# Altium footprint library PBL4_GR4_PcbLib.PcbLib: 35 footprints (part 1 of 3)
Each footprint in its own frame and in the unit in brackets; x right, y up, seen from the top. Pads: shape width x height; smd on the part's side, far side on the other; paste and mask are expansions set on the pad; w line width, h text height; cw(c..) or ccw(c..) is an arc to the next point about the centre after c.
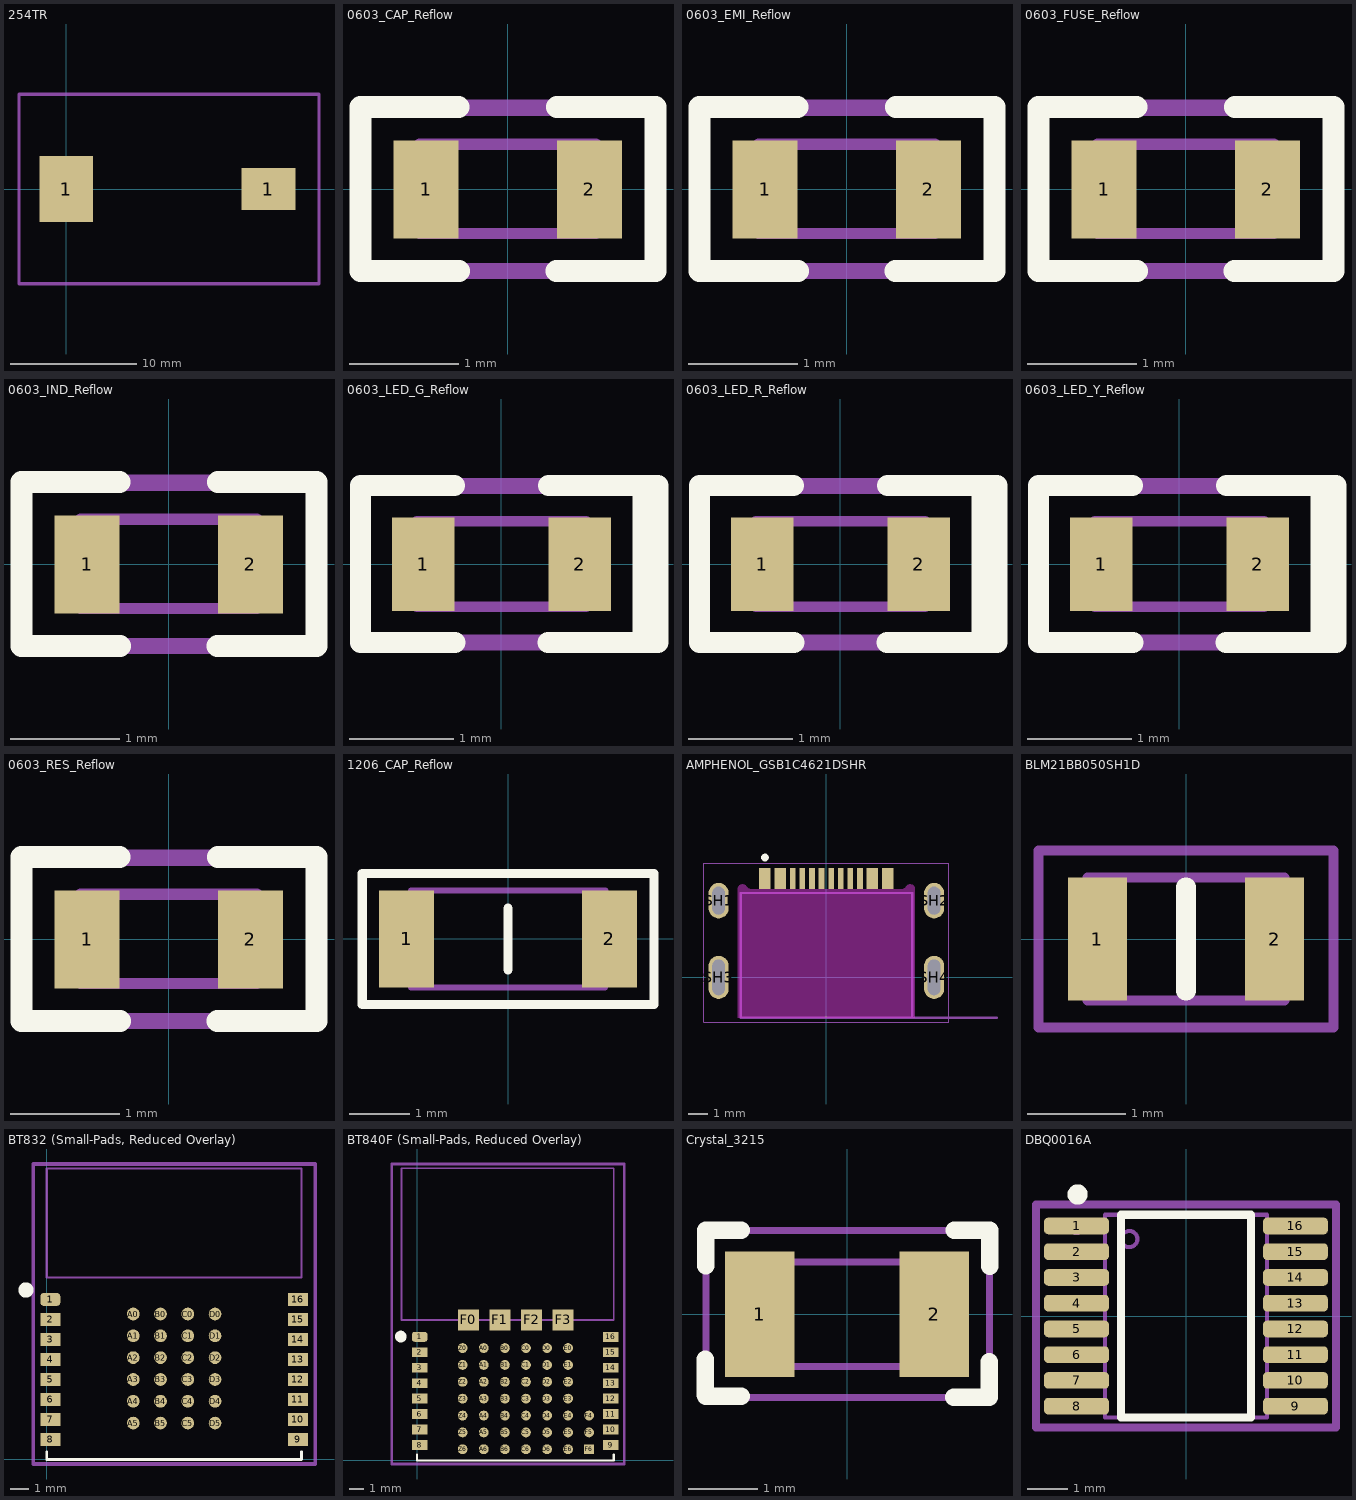
[diagram p0: the footprints below, top view; thin cyan lines are the x and y axes]

## 254TR [mm]
pads (2):
  rect 4.24x5.2 smd: 1(0,0)
  rect 4.24x3.3 smd: 1(16,0)
Top Assembly:
  lines w0.254: -3.75,-7.5 -3.75,7.5 20,7.5 20,-7.5 -3.75,-7.5
  text ".Designator" at 4.504,-0.346 h1.2

## 0603_CAP_Reflow [mm]
pads (2):
  rect 0.6x0.9 smd paste-0.05: 1(-0.75,0) 2(0.75,0)
Top Overlay:
  lines w0.203: -0.451,0.756 -1.352,0.756 -1.352,-0.75 -0.446,-0.75 ; 0.447,-0.75 1.358,-0.75 1.358,0.756 0.452,0.756
Top Component Outline:
  lines w0.102: -0.81,-0.406 0.81,-0.406 0.81,0.414 -0.81,0.414 -0.81,-0.406
Top Assembly:
  lines w0.15: -1.375,-0.75 -1.375,0.75 1.38,0.75 1.38,-0.75 -1.375,-0.75
  text ".Designator" at -0.9,-0.206 h1
3D body "User Library-ECHU_PPS.step": height 0.7, standoff 0, extent -0.8,-0.4 0.8,0.4

## 0603_EMI_Reflow [mm]
pads (2):
  rect 0.6x0.9 smd paste-0.05: 1(-0.75,0) 2(0.75,0)
Top Overlay:
  lines w0.203: -0.451,0.756 -1.352,0.756 -1.352,-0.75 -0.446,-0.75 ; 0.447,-0.75 1.358,-0.75 1.358,0.756 0.452,0.756
Top Component Outline:
  lines w0.102: -0.81,-0.406 -0.81,0.414 0.81,0.414 0.81,-0.406 -0.81,-0.406
Top Assembly:
  lines w0.15: -1.375,-0.75 1.38,-0.75 1.38,0.75 -1.375,0.75 -1.375,-0.75
  text ".Designator" at -0.81,-0.221 h1
3D body "603.stp": height 0.81, standoff 0, extent -0.81,-0.406 0.81,0.414

## 0603_FUSE_Reflow [mm]
pads (2):
  rect 0.6x0.9 smd paste-0.05: 1(-0.75,0) 2(0.75,0)
Top Overlay:
  lines w0.203: -0.451,0.756 -1.352,0.756 -1.352,-0.75 -0.446,-0.75 ; 0.447,-0.75 1.358,-0.75 1.358,0.756 0.452,0.756
Top Component Outline:
  lines w0.102: -0.81,-0.406 0.81,-0.406 0.81,0.414 -0.81,0.414 -0.81,-0.406
Top Assembly:
  lines w0.15: -1.375,-0.75 -1.375,0.75 1.38,0.75 1.38,-0.75 -1.375,-0.75
  text ".Designator" at -0.81,-0.221 h1
3D body "User Library-ptc06032-1(1).step": height 0.75, standoff 0, extent -0.8,-0.375 0.8,0.375

## 0603_IND_Reflow [mm]
pads (2):
  rect 0.6x0.9 smd paste-0.05: 1(-0.75,0) 2(0.75,0)
Top Overlay:
  lines w0.203: -0.451,0.756 -1.352,0.756 -1.352,-0.75 -0.446,-0.75 ; 0.447,-0.75 1.358,-0.75 1.358,0.756 0.452,0.756
Top Component Outline:
  lines w0.102: -0.81,-0.406 -0.81,0.414 0.81,0.414 0.81,-0.406 -0.81,-0.406
Top Assembly:
  lines w0.15: -1.375,-0.75 1.38,-0.75 1.38,0.75 -1.375,0.75 -1.375,-0.75
  text ".Designator" at -0.81,-0.221 h1
3D body "User Library-INDC1608X___.step": height 1, standoff 0, extent -0.8,-0.4 0.8,0.4

## 0603_LED_G_Reflow [mm]
pads (2):
  rect 0.6x0.9 smd paste-0.05: 1(-0.75,0) 2(0.75,0)
Top Overlay:
  lines w0.2: 1.5,-0.75 1.5,0.756
  lines w0.203: -0.451,0.756 -1.352,0.756 -1.352,-0.75 -0.446,-0.75 ; 1.5,-0.75 0.447,-0.75 1.358,-0.75 1.358,0.756 0.452,0.756 1.5,0.756
Top Component Outline:
  lines w0.102: -0.81,-0.406 0.81,-0.406 0.81,0.414 -0.81,0.414 -0.81,-0.406
Top Assembly:
  lines w0.15: -1.375,-0.75 -1.375,0.75 1.38,0.75 1.38,-0.75 -1.375,-0.75
  text ".Designator" at -0.81,-0.221 h1
3D body "User Library-LTST-C190GKT.STEP": height 0.9, standoff 0, extent -0.85,-0.45 0.85,0.45

## 0603_LED_R_Reflow [mm]
pads (2):
  rect 0.6x0.9 smd paste-0.05: 1(-0.75,0) 2(0.75,0)
Top Overlay:
  lines w0.2: 1.5,-0.75 1.5,0.756
  lines w0.203: -0.451,0.756 -1.352,0.756 -1.352,-0.75 -0.446,-0.75 ; 1.5,-0.75 0.447,-0.75 1.358,-0.75 1.358,0.756 0.452,0.756 1.5,0.756
Top Component Outline:
  lines w0.102: -0.81,-0.406 0.81,-0.406 0.81,0.414 -0.81,0.414 -0.81,-0.406
Top Assembly:
  lines w0.15: -1.375,-0.75 -1.375,0.75 1.38,0.75 1.38,-0.75 -1.375,-0.75
  text ".Designator" at -0.81,-0.221 h1
3D body "User Library-LTST-C190EKT.STEP": height 0.9, standoff 0, extent -0.85,-0.45 0.85,0.45

## 0603_LED_Y_Reflow [mm]
pads (2):
  rect 0.6x0.9 smd paste-0.05: 1(-0.75,0) 2(0.75,0)
Top Overlay:
  lines w0.2: 1.5,-0.75 1.5,0.756
  lines w0.203: -0.451,0.756 -1.352,0.756 -1.352,-0.75 -0.446,-0.75 ; 1.5,-0.75 0.447,-0.75 1.358,-0.75 1.358,0.756 0.452,0.756 1.5,0.756
Top Component Outline:
  lines w0.102: -0.81,-0.406 -0.81,0.414 0.81,0.414 0.81,-0.406 -0.81,-0.406
Top Assembly:
  lines w0.15: -1.375,-0.75 1.38,-0.75 1.38,0.75 -1.375,0.75 -1.375,-0.75
  text ".Designator" at -0.81,-0.221 h1
3D body "LED_yellow.step": height 0.9, standoff 0, extent -0.85,-0.45 0.85,0.45

## 0603_RES_Reflow [mm]
pads (2):
  rect 0.6x0.9 smd paste-0.05: 1(-0.75,0) 2(0.75,0)
Top Overlay:
  lines w0.203: -0.451,0.756 -1.352,0.756 -1.352,-0.75 -0.446,-0.75 ; 0.447,-0.75 1.358,-0.75 1.358,0.756 0.452,0.756
Top Component Outline:
  lines w0.102: -0.81,-0.406 -0.81,0.414 0.81,0.414 0.81,-0.406 -0.81,-0.406
Top Assembly:
  lines w0.15: -1.375,-0.75 1.38,-0.75 1.38,0.75 -1.375,0.75 -1.375,-0.75
  text ".Designator" at -0.81,-0.221 h1
3D body "User Library-RES_1609-0603.step": height 0.56, standoff 0, extent -0.85,-0.425 0.85,0.375

## 1206_CAP_Reflow [mm] "1206"
height 2.54
pads (2):
  rect 0.9x1.6 smd: 1(-1.674,0) 2(1.674,0)
Top Overlay:
  lines w0.152: 0,-0.508 0,0.508 ; -2.405,-1.081 2.409,-1.081 2.409,1.079 -2.405,1.079 -2.405,-1.081
Top Component Outline:
  lines w0.102: 1.6,0.8 1.6,-0.8 -1.6,-0.8 -1.6,0.8 1.603,0.8
Top Assembly:
  lines w0.1: -2.4,-1.078 -2.4,1.079 2.415,1.079 2.415,-1.078 -2.4,-1.078
  text ".Designator" at -1.5,-0.204 h1
3D body "User Library-1206 SMD Capacitor.step": height 1, standoff 0, extent -1.6,-0.8 1.6,0.8

## AMPHENOL_GSB1C4621DSHR [mm]
height 3.16
pads (16):
  rect 0.6x1.1 smd mask+0.05: A1_B12(-3.2,5.15) A4_B9(-2.4,5.15) B1_A12(3.2,5.15) B4_A9(2.4,5.15)
  rect 0.3x1.1 smd mask+0.05: A5(-1.25,5.15) A6(-0.25,5.15) A7(0.25,5.15) A8(1.25,5.15) B5(1.75,5.15) B6(0.75,5.15) B7(-0.75,5.15) B8(-1.75,5.15)
  oval 1.05x1.85 hole 0.65 slot 1.45 at 90 deg: SH1(-5.62,4) SH2(5.62,4)
  oval 1.05x2.25 hole 0.65 slot 1.85 at 90 deg: SH3(-5.62,0) SH4(5.62,0)
Top Overlay:
  circle w0.2: c-3.2,6.25 r0.1
Keep-Out Layer:
  board cut-out: -4.619,4.622 -4.62,4.6 -4.62,-2.1 4.62,-2.1 4.62,4.6 4.619,4.622 4.616,4.643 4.611,4.665 4.605,4.686 4.597,4.706 4.587,4.725 4.575,4.743 4.562,4.761 4.547,4.777 4.531,4.792 4.513,4.805 4.495,4.817 4.476,4.827 4.456,4.835 4.435,4.841 4.413,4.846 4.392,4.849 4.37,4.85 4.348,4.849 4.327,4.846 4.305,4.841 4.284,4.835 4.264,4.827 4.245,4.817 4.227,4.805 4.209,4.792 4.193,4.777 4.178,4.761 4.165,4.743 4.154,4.725 4.149,4.718 4.144,4.71 4.139,4.703 4.134,4.696 4.129,4.689 4.123,4.683 4.117,4.676 4.111,4.67 4.104,4.664 4.098,4.658 4.091,4.653 4.084,4.648 4.077,4.643 4.069,4.638 4.062,4.633 4.054,4.629 4.047,4.625 4.039,4.622 4.031,4.618 4.022,4.615 4.014,4.612 4.006,4.61 3.997,4.607 3.989,4.605 3.98,4.604 3.972,4.602 3.963,4.601 3.954,4.601 3.946,4.6 3.937,4.6 -3.937,4.6 -3.946,4.6 -3.954,4.601 -3.963,4.601 -3.972,4.602 -3.98,4.604 -3.989,4.605 -3.997,4.607 -4.006,4.61 -4.014,4.612 -4.022,4.615 -4.031,4.618 -4.039,4.622 -4.047,4.625 -4.054,4.629 -4.062,4.633 -4.069,4.638 -4.077,4.643 -4.084,4.648 -4.091,4.653 -4.098,4.658 -4.104,4.664 -4.111,4.67 -4.117,4.676 -4.123,4.683 -4.129,4.689 -4.134,4.696 -4.139,4.703 -4.144,4.71 -4.149,4.718 -4.154,4.725 -4.165,4.743 -4.178,4.761 -4.193,4.777 -4.209,4.792 -4.227,4.805 -4.245,4.817 -4.264,4.827 -4.284,4.835 -4.305,4.841 -4.327,4.846 -4.348,4.849 -4.37,4.85 -4.392,4.849 -4.413,4.846 -4.435,4.841 -4.456,4.835 -4.476,4.827 -4.495,4.817 -4.513,4.805 -4.531,4.792 -4.547,4.777 -4.562,4.761 -4.575,4.743 -4.587,4.725 -4.597,4.706 -4.605,4.686 -4.611,4.665 -4.616,4.643
Top Component Outline:
  lines w0.127: -4.47,-2.1 4.47,-2.1 4.47,4.4 -4.47,4.4 -4.47,-2.1
Top Assembly:
  lines w0.05: -6.395,-2.35 -6.395,5.95 6.395,5.95 6.395,-2.35 -6.395,-2.35
  text ".Designator" at -1.143,-0.48 h1.5
Additional Info:
  lines w0.127: 4.47,-2.1 8.9,-2.1
  text "PCB Edge" at 6.5,-2 h0.81
3D body "step_temp.STEP": height 2.38, standoff -0.83, extent -5.77,-2.06 5.77,5.14

## BLM21BB050SH1D [mm]
pads (2):
  rect 0.6x1.25 smd: 1(-0.9,0) 2(0.9,0)
Top Overlay:
  lines w0.2: 0,-0.525 0,0.525
Top Component Outline:
  lines w0.1: -1,-0.625 1,-0.625 1,0.625 -1,0.625 -1,-0.625
Top Assembly:
  lines w0.1: -1.5,-0.9 1.5,-0.9 1.5,0.9 -1.5,0.9 -1.5,-0.9
  text ".Designator" at -0.762,-0.193 h1
3D body "BLM21BB201SH1D.stp": height 1.26, standoff 0.01, extent -1,-0.625 1,0.625

## BT832 (Small-Pads, Reduced Overlay) [mm]
pads (40):
  rrect50% 1.1x0.7 smd paste+0 mask+0.127: 1(0.19,8.8)
  rect 1.1x0.7 smd paste+0 mask+0.127: 2(0.19,7.7) 3(0.19,6.6) 4(0.19,5.5) 5(0.19,4.4) 6(0.19,3.3) 7(0.19,2.2) 8(0.19,1.1) 9(13.8,1.1) 10(13.8,2.2) 11(13.8,3.3) 12(13.8,4.4) 13(13.8,5.5) 14(13.8,6.6) 15(13.8,7.7) 16(13.8,8.8)
  round 0.7 smd: A0(4.75,8) A1(4.75,6.8) A2(4.75,5.6) A3(4.75,4.4) A4(4.75,3.2) A5(4.75,2) B0(6.25,8) B1(6.25,6.8) B2(6.25,5.6) B3(6.25,4.4) B4(6.25,3.2) B5(6.25,2) C0(7.75,8) C1(7.75,6.8) C2(7.75,5.6) C3(7.75,4.4) C4(7.75,3.2) C5(7.75,2) D0(9.25,8) D1(9.25,6.8) D2(9.25,5.6) D3(9.25,4.4) D4(9.25,3.2) D5(9.25,2)
Top Overlay:
  circle w0.508: c-1.156,9.32 r0.163
  lines w0.152: -0.003,0.003 -0.003,0.43 ; 0,0 14,0 ; 14.003,0.011 14.003,0.43
Top Assembly:
  circle w0.3: c0.2,8.8 r0.1
  lines w0.2: -0.75,-0.25 -0.75,16.25 14.75,16.25 14.75,-0.25 -0.75,-0.25
  text ".Designator" at 3.75,8.5 h1.4
Additional Info:
  lines w0.127: -0.003,10.006 -0.003,16 ; -0.002,10.006 14.006,10.006 14.006,16 0.003,16
  text "Antenna" at 4.364,13.612 h1.52
  text "outside the board" at 1.798,11.86 h1.52
3D body "bt832.stp": height 2, standoff 0, extent 0.003,0 14.003,16
3D body: height 0.6, standoff 0, extent -0.023,8.45 0.423,9.15
3D body: height 0.6, standoff 0, extent -0.024,7.351 0.423,8.052
3D body: height 0.6, standoff 0, extent -0.024,6.25 0.423,6.951
3D body: height 0.6, standoff 0, extent -0.024,5.151 0.423,5.851
3D body: height 0.6, standoff 0, extent -0.024,0.75 0.423,1.451
3D body: height 0.6, standoff 0, extent -0.024,1.849 0.423,2.55
3D body: height 0.6, standoff 0, extent -0.023,2.95 0.423,3.651
3D body: height 0.6, standoff 0, extent -0.023,4.049 0.424,4.75
3D body: height 0.6, standoff 0, extent 13.58,4.049 14.027,4.749
3D body: height 0.6, standoff 0, extent 13.579,2.95 14.026,3.651
3D body: height 0.6, standoff 0, extent 13.579,1.849 14.026,2.55
3D body: height 0.6, standoff 0, extent 13.579,0.75 14.026,1.45
3D body: height 0.6, standoff 0, extent 13.579,5.151 14.026,5.851
3D body: height 0.6, standoff 0, extent 13.579,6.25 14.026,6.951
3D body: height 0.6, standoff 0, extent 13.579,7.351 14.026,8.051
3D body: height 0.6, standoff 0, extent 13.58,8.45 14.026,9.15

## BT840F (Small-Pads, Reduced Overlay) [mm]
pads (65):
  rrect50% 1.1x0.7 smd paste+0 mask+0.127: 1(0.19,8.8)
  rect 1.1x0.7 smd paste+0 mask+0.127: 2(0.19,7.7) 3(0.19,6.6) 4(0.19,5.5) 5(0.19,4.4) 6(0.19,3.3) 7(0.19,2.2) 8(0.19,1.1) 9(13.8,1.1) 10(13.8,2.2) 11(13.8,3.3) 12(13.8,4.4) 13(13.8,5.5) 14(13.8,6.6) 15(13.8,7.7) 16(13.8,8.8)
  round 0.7 smd: A0(4.75,8) A1(4.75,6.8) A2(4.75,5.6) A3(4.75,4.4) A4(4.75,3.2) A5(4.75,2) A6(4.75,0.8) B0(6.25,8) B1(6.25,6.8) B2(6.25,5.6) B3(6.25,4.4) B4(6.25,3.2) B5(6.25,2) B6(6.25,0.8) C0(7.75,8) C1(7.75,6.8) C2(7.75,5.6) C3(7.75,4.4) C4(7.75,3.2) C5(7.75,2) C6(7.75,0.8) D0(9.25,8) D1(9.25,6.8) D2(9.25,5.6) D3(9.25,4.4) D4(9.25,3.2) D5(9.25,2) D6(9.25,0.8) E0(10.75,8) E1(10.75,6.8) E2(10.75,5.6) E3(10.75,4.4) E4(10.75,3.2) E5(10.75,2) E6(10.75,0.8) F4(12.25,3.2) F5(12.25,2) Z0(3.25,8) Z1(3.25,6.8) Z2(3.25,5.6) Z3(3.25,4.4) Z4(3.25,3.2) Z5(3.25,2) Z6(3.25,0.8)
  rect 1.5x1.5 smd paste+0 mask+0.127: F0(3.65,10) F1(5.9,10) F2(8.15,10) F3(10.4,10)
  rect 0.7x0.7 smd: F6(12.25,0.8)
Top Overlay:
  circle w0.508: c-1.156,8.82 r0.163
  lines w0.152: -0.003,0.003 -0.003,0.43 ; 0,0 14,0 ; 14.003,0.011 14.003,0.43
Top Assembly:
  circle w0.3: c0.2,8.8 r0.1
  lines w0.2: -1.8,-0.25 14.75,-0.25 14.75,21.1 -1.8,21.1 -1.8,-0.25
  text ".Designator" at 3.75,8.5 h1.4
Mechanical 15:
  lines w0.127: -1.1,10.006 -1.1,20.8 14.006,20.8 14.006,10.006 -1.1,10.006
  text "outside the board" at 1.798,14.86 h1.52
  text "Antenna" at 4.364,16.612 h1.52
3D body "bt832af.stp": height 2, standoff 0, extent -0.997,0 14.003,20.8
3D body: height 0.6, standoff 0, extent 13.58,8.45 14.026,9.15
3D body: height 0.6, standoff 0, extent 13.579,7.351 14.026,8.051
3D body: height 0.6, standoff 0, extent 13.579,6.25 14.026,6.951
3D body: height 0.6, standoff 0, extent 13.579,5.151 14.026,5.851
3D body: height 0.6, standoff 0, extent 13.579,0.75 14.026,1.45
3D body: height 0.6, standoff 0, extent 13.579,1.849 14.026,2.55
3D body: height 0.6, standoff 0, extent 13.579,2.95 14.026,3.651
3D body: height 0.6, standoff 0, extent 13.58,4.049 14.027,4.749
3D body: height 0.6, standoff 0, extent -0.023,4.049 0.424,4.75
3D body: height 0.6, standoff 0, extent -0.023,2.95 0.423,3.651
3D body: height 0.6, standoff 0, extent -0.024,1.849 0.423,2.55
3D body: height 0.6, standoff 0, extent -0.024,0.75 0.423,1.451
3D body: height 0.6, standoff 0, extent -0.024,5.151 0.423,5.851
3D body: height 0.6, standoff 0, extent -0.024,6.25 0.423,6.951
3D body: height 0.6, standoff 0, extent -0.024,7.351 0.423,8.052
3D body: height 0.6, standoff 0, extent -0.023,8.45 0.423,9.15

## Crystal_3215 [mm]
pads (2):
  rect 1x1.8 smd: 1(-1.25,0) 2(1.25,0)
Top Overlay:
  lines w0.25: -2.035,-1.158 -2.035,-0.647 ; -2.026,-1.175 -1.514,-1.175 ; -2.026,0.693 -2.026,1.201 -1.514,1.201 ; 1.528,-1.191 2.04,-1.191 2.04,-0.683 ; 1.536,1.201 2.044,1.201 2.044,0.689
Top Component Outline:
  lines w0.1: -1.6,-0.75 -1.6,0.75 1.6,0.75 1.6,-0.75 -1.6,-0.75
Bottom Component Outline:
  lines w0.1: -2.024,-1.195 -2.024,1.2 2.042,1.2 2.042,-1.195 -2.024,-1.195
  text ".Designator" at -1.256,-0.387 h1
3D body "User Library-NDK_NX3215SA.step": height 0.8, standoff 0, extent -1.6,-0.75 1.6,0.75

## DBQ0016A [mm] "DBQ0016A SSOP - 1.75 mm max height"
height 1.75
pads (16):
  rrect50% 1.6x0.41 smd: 1(-2.7,2.222) 2(-2.7,1.587) 3(-2.7,0.953) 4(-2.7,0.318) 5(-2.7,-0.318) 6(-2.7,-0.953) 7(-2.7,-1.587) 8(-2.7,-2.222) 9(2.7,-2.223) 10(2.7,-1.588) 11(2.7,-0.953) 12(2.7,-0.318) 13(2.7,0.317) 14(2.7,0.952) 15(2.7,1.587) 16(2.7,2.222)
Top Overlay:
  circle w0.25: c-2.675,3 r0.125
  lines w0.2: -1.6,-2.5 -1.6,2.5 1.6,2.5 1.6,-2.5 -1.6,-2.5
Top Component Outline:
  circle w0.1: c-1.4,1.9 r0.2
  lines w0.1: -2,-2.5 2,-2.5 2,2.5 -2,2.5 -2,-2.5
Top Assembly:
  circle w0.2: c-2.7,2.2 r0.1
  lines w0.2: -3.7,-2.75 3.7,-2.75 3.7,2.75 -3.7,2.75 -3.7,-2.75
3D body "User Library-SSOP 16-pin.step": height 1.75, standoff 0.01, extent -3.127,-2.5 3.127,2.5